# Altium integrated library IR2181.IntLib: 1 symbol
Pins are listed as number, name and electrical type; pins without a type are passive.

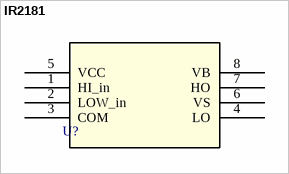
[diagram p0: symbol IR2181]

## IR2181
designator U?  (value not drawn)
footprint SOIC8_INF-L
pins: 1 HI_in (power), 2 LOW_in, 3 COM, 4 LO, 5 VCC, 6 VS, 7 HO, 8 VB